# EAGLE library part DF40C-50DS-0.4V(51) (library Sala-Eng-Hirose)
Hirose DF40C-50DS-0.4V(51) 50 pin 0.4mm pitch 1.5mm height connector Recepticle
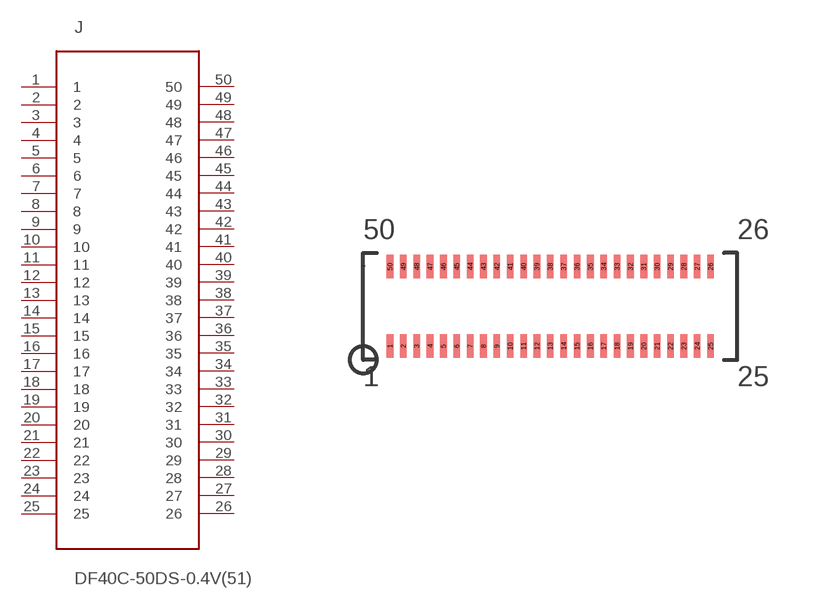
[diagram p2: symbol with the pads of DF40C-50DS-0.4V(51); footprint DF40C-50DS-0.4V(51)]

Designator prefix J

## DF40C-50DS-0.4V(51)  [DF40C-50DS-0.4V(51)]
1  1
2  2
3  3
4  4
5  5
6  6
7  7
8  8
9  9
10  10
11  11
12  12
13  13
14  14
15  15
16  16
17  17
18  18
19  19
20  20
21  21
22  22
23  23
24  24
25  25
26  26
27  27
28  28
29  29
30  30
31  31
32  32
33  33
34  34
35  35
36  36
37  37
38  38
39  39
40  40
41  41
42  42
43  43
44  44
45  45
46  46
47  47
48  48
49  49
50  50

## Footprint DF40C-50DS-0.4V(51) (pad centres in mm)
Hirose DF40C-50DS-0.4V(51) 50 pin 0.4mm pitch 1.5mm height connector
smd 0.2 x 0.7: 1 -4.8,-1.19; 2 -4.4,-1.19; 3 -4,-1.19; 4 -3.6,-1.19; 5 -3.2,-1.19; 6 -2.8,-1.19; 7 -2.4,-1.19; 8 -2,-1.19; 9 -1.6,-1.19; 10 -1.2,-1.19; 11 -0.8,-1.19; 12 -0.4,-1.19; 13 0,-1.19; 14 0.4,-1.19; 15 0.8,-1.19; 16 1.2,-1.19; 17 1.6,-1.19; 18 2,-1.19; 19 2.4,-1.19; 20 2.8,-1.19; 21 3.2,-1.19; 22 3.6,-1.19; 23 4,-1.19; 24 4.4,-1.19; 25 4.8,-1.19; 26 4.8,1.19; 27 4.4,1.19; 28 4,1.19; 29 3.6,1.19; 30 3.2,1.19; 31 2.8,1.19; 32 2.4,1.19; 33 2,1.19; 34 1.6,1.19; 35 1.2,1.19; 36 0.8,1.19; 37 0.4,1.19; 38 0,1.19; 39 -0.4,1.19; 40 -0.8,1.19; 41 -1.2,1.19; 42 -1.6,1.19; 43 -2,1.19; 44 -2.4,1.19; 45 -2.8,1.19; 46 -3.2,1.19; 47 -3.6,1.19; 48 -4,1.19; 49 -4.4,1.19; 50 -4.8,1.19